# EAGLE library part GEC13DABN-M30 (library con-sullins)
HEADER - Vertical
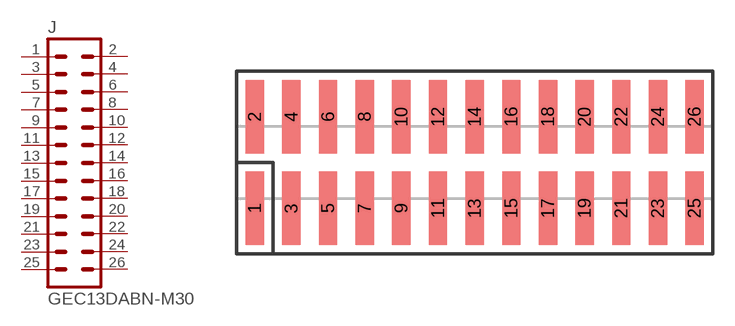
[diagram p9: symbol with the pads of GXC13; footprint GXC13]

Designator prefix J

## GEC13DABN-M30  [GXC13]
1  1  pas
2  2  pas
3  3  pas
4  4  pas
5  5  pas
6  6  pas
7  7  pas
8  8  pas
9  9  pas
10  10  pas
11  11  pas
12  12  pas
13  13  pas
14  14  pas
15  15  pas
16  16  pas
17  17  pas
18  18  pas
19  19  pas
20  20  pas
21  21  pas
22  22  pas
23  23  pas
24  24  pas
25  25  pas
26  26  pas

## Footprint GXC13 (pad centres in mm)
SMD HEADER - 0.1", Vertical
smd 1.27 x 5.08: 1 -15.24,-3.175; 2 -15.24,3.175; 3 -12.7,-3.175; 4 -12.7,3.175; 5 -10.16,-3.175; 6 -10.16,3.175; 7 -7.62,-3.175; 8 -7.62,3.175; 9 -5.08,-3.175; 10 -5.08,3.175; 11 -2.54,-3.175; 12 -2.54,3.175; 13 0,-3.175; 14 0,3.175; 15 2.54,-3.175; 16 2.54,3.175; 17 5.08,-3.175; 18 5.08,3.175; 19 7.62,-3.175; 20 7.62,3.175; 21 10.16,-3.175; 22 10.16,3.175; 23 12.7,-3.175; 24 12.7,3.175; 25 15.24,-3.175; 26 15.24,3.175